# EAGLE library part MTL-EAGLE-BIBLIOTHEK_ABSCHIRMGEHäUSE_SMD_25MM (library Piezoverstärker_v3.0)
Abschirm Case 25x25 mm; 3mm Innenhöhe
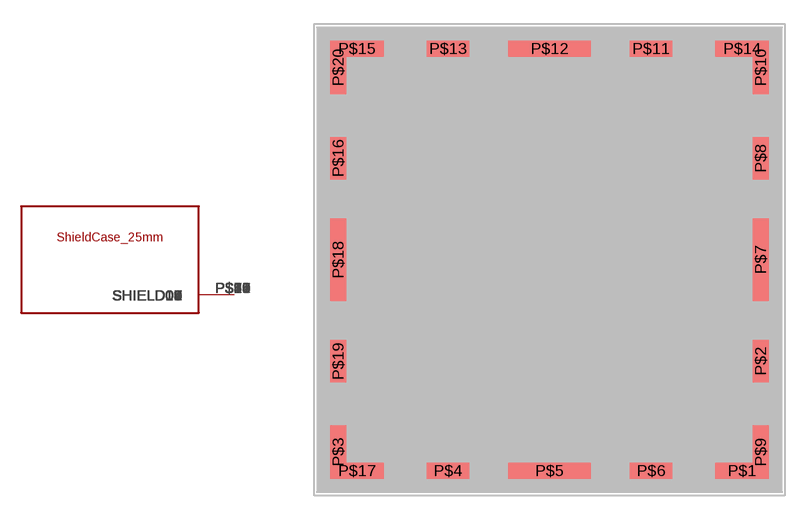
[diagram p1: symbol with the pads of MTL-EAGLE-BIBLIOTHEK_ABSCHIRMGEHäUSE_SMD_25MM; footprint MTL-EAGLE-BIBLIOTHEK_ABSCHIRMGEHäUSE_SMD_25MM]

Designator prefix -

## MTL-EAGLE-BIBLIOTHEK_ABSCHIRMGEHäUSE_SMD_25MM  [MTL-EAGLE-BIBLIOTHEK_ABSCHIRMGEHäUSE_SMD_25MM]
P$1  SHIELD00
P$2  SHIELD01
P$3  SHIELD02
P$4  SHIELD03
P$5  SHIELD04
P$6  SHIELD05
P$7  SHIELD06
P$8  SHIELD07
P$9  SHIELD08
P$10  SHIELD09
P$11  SHIELD10
P$12  SHIELD11
P$13  SHIELD12
P$14  SHIELD13
P$15  SHIELD14
P$16  SHIELD15
P$17  SHIELD16
P$18  SHIELD17
P$19  SHIELD18
P$20  SHIELD19

## Footprint MTL-EAGLE-BIBLIOTHEK_ABSCHIRMGEHäUSE_SMD_25MM (pad centres in mm)
Abschirm Case 25x25 mm; 3mm Innenhöhe
smd 3.3 x 1: P$1 11.85,-13; P$14 11.85,13; P$15 -11.85,13; P$17 -11.85,-13
smd 1 x 2.6: P$2 13,-6.25; P$8 13,6.25; P$16 -13,6.25; P$19 -13,-6.25
smd 1 x 3.3: P$3 -13,-11.85; P$9 13,-11.85; P$10 13,11.85; P$20 -13,11.85
smd 2.6 x 1: P$4 -6.25,-13; P$6 6.25,-13; P$11 6.25,13; P$13 -6.25,13
smd 5.1 x 1: P$5 0,-13; P$12 0,13
smd 1 x 5.1: P$7 13,0; P$18 -13,0